# Altium schematic symbol library SCH - TRANSISTORS - DIGITAL TRANSISTOR.Schlib: 1 symbol
Pins are listed as number, name and electrical type; pins without a type are passive.

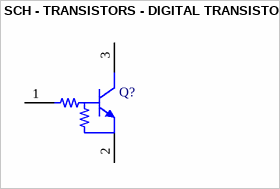
[diagram p0: symbol SCH - TRANSISTORS - DIGITAL TRANSISTOR]

## SCH - TRANSISTORS - DIGITAL TRANSISTOR
designator Q?
footprint SC-70 SOT-323 UMT3
pins: 1 B, 2 E, 3 C